# EAGLE library part 610X1421121 (library Board-to-Board (rev18a))
WR-PHD 2.54mm Dual SMT Pin Header, 14 Pins =>Code : Con_BTB_PHD_2.54_2_610x1421121(packageing:x = 0: Tube x = 3: Tape & Reel with Cap; 300 pcs/Reel) <http://katalog.we-online.de/media/images/eican/Con_BTB_PHD_2.54_2_6100xx21121_pf2.jpg> 6100xx21121 Details see: http://katalog.we-online.de/en/em/610_0xx_211_21 6103xx21121 Details see: http://katalog.we-online.de/en/em/PHD_2_54_SMT_DUAL_PIN_HEADER_REEL_6103XX21121 2014 (C) Würth Elektronik
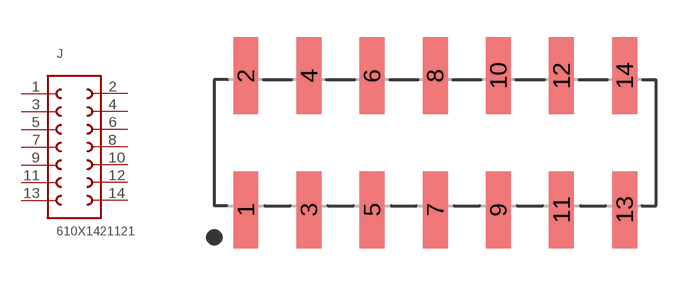
[diagram p77: symbol with the pads of 610X1421121; footprint 610X1421121]

Designator prefix J

## 610X1421121  [610X1421121]
1  1  pas
2  14  pas
3  2  pas
4  13  pas
5  3  pas
6  12  pas
7  4  pas
8  11  pas
9  5  pas
10  10  pas
11  6  pas
12  9  pas
13  7  pas
14  8  pas

## Footprint 610X1421121 (pad centres in mm)
WR-PHD 2.54mm Dual SMT Pin Header, 14 Pins
smd 1 x 3.1: 1 -7.62,-2.7; 2 -7.62,2.7; 3 -5.08,-2.7; 4 -5.08,2.7; 5 -2.54,-2.7; 6 -2.54,2.7; 7 0,-2.7; 8 0,2.7; 9 2.54,-2.7; 10 2.54,2.7; 11 5.08,-2.7; 12 5.08,2.7; 13 7.62,-2.7; 14 7.62,2.7